# EAGLE library part HMC1043 (library imu1)
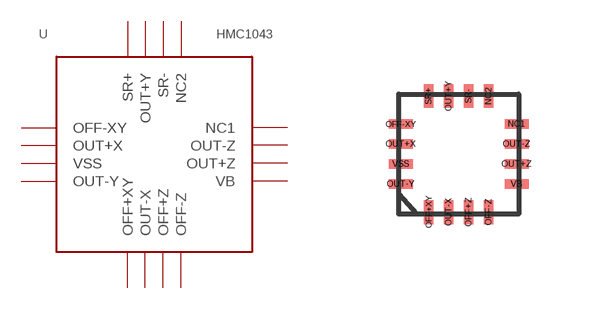
[diagram p4: symbol with the pads of HMC1043; footprint HMC1043]

Designator prefix -

## HMC1043  [HMC1043]
NC1  NC1
NC2  NC2
OFF+XY  OFF+XY
OFF+Z  OFF+Z
OFF-XY  OFF-XY
OFF-Z  OFF-Z
OUT+X  OUT+X
OUT+Y  OUT+Y
OUT+Z  OUT+Z
OUT-X  OUT-X
OUT-Y  OUT-Y
OUT-Z  OUT-Z
SR+  SR+
SR-  SR-
VB  VB
VSS  VSS

## Footprint HMC1043 (pad centres in mm)
smd 0.6 x 0.23: NC1 2.95,2.25; OFF-XY 0.05,2.25; OUT+X 0.05,1.75; OUT+Z 2.95,1.25; OUT-Y 0.05,0.75; OUT-Z 2.95,1.75; VB 2.95,0.75; VSS 0.05,1.25
smd 0.23 x 0.6: NC2 2.25,2.95; OFF+XY 0.75,0.05; OFF+Z 1.75,0.05; OFF-Z 2.25,0.05; OUT+Y 1.25,2.95; OUT-X 1.25,0.05; SR+ 0.75,2.95; SR- 1.75,2.95